# EAGLE library part HIP4081AIBZ (library Intersil_By_element14_Batch_1)
80V/2.5A Peak, High Frequency Full Bridge FET Driver
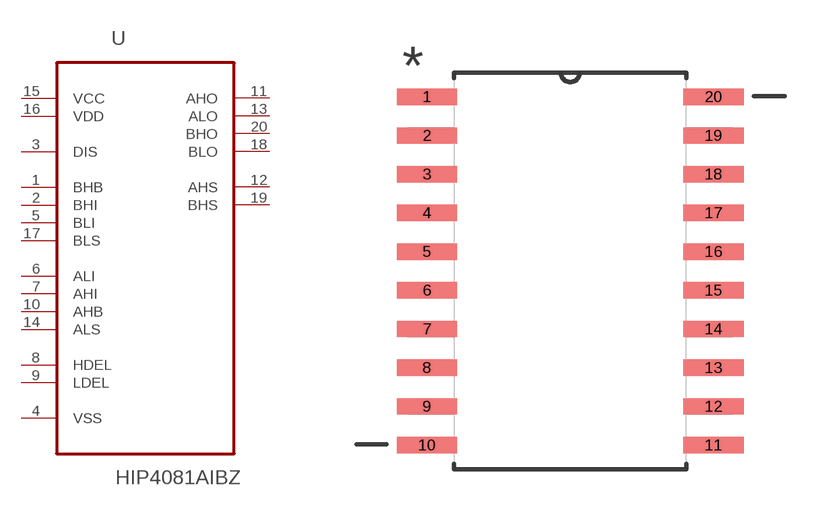
[diagram p154: symbol with the pads of SOIC127P1032X265-20N; footprint SOIC127P1032X265-20N]

Designator prefix U

## HIP4081AIBZ (MPN: HIP4081AIBZ; OC_FARNELL: 1561934; OC_NEWARK: 57K3816; PACKAGE: SOIC-20; SUPPLIER: Intersil)  [SOIC127P1032X265-20N]
1  BHB  in
2  BHI  in
3  DIS  in
4  VSS  in
5  BLI  in
6  ALI  in
7  AHI  in
8  HDEL  in
9  LDEL  in
10  AHB  in
11  AHO  out
12  AHS  in
13  ALO  out
14  ALS  in
15  VCC  pwr
16  VDD  in
17  BLS  in
18  BLO  out
19  BHS  in
20  BHO  out

## Footprint SOIC127P1032X265-20N (pad centres in mm)
smd 1.981 x 0.533: 1 -4.699,5.715; 2 -4.699,4.445; 3 -4.699,3.175; 4 -4.699,1.905; 5 -4.699,0.635; 6 -4.699,-0.635; 7 -4.699,-1.905; 8 -4.699,-3.175; 9 -4.699,-4.445; 10 -4.699,-5.715; 11 4.699,-5.715; 12 4.699,-4.445; 13 4.699,-3.175; 14 4.699,-1.905; 15 4.699,-0.635; 16 4.699,0.635; 17 4.699,1.905; 18 4.699,3.175; 19 4.699,4.445; 20 4.699,5.715